# Altium footprint library Capacitors.PcbLib: 10 footprints
Each footprint in its own frame and in the unit in brackets; x right, y up, seen from the top. Pads: shape width x height; smd on the part's side, far side on the other; paste and mask are expansions set on the pad; w line width, h text height; cw(c..) or ccw(c..) is an arc to the next point about the centre after c.
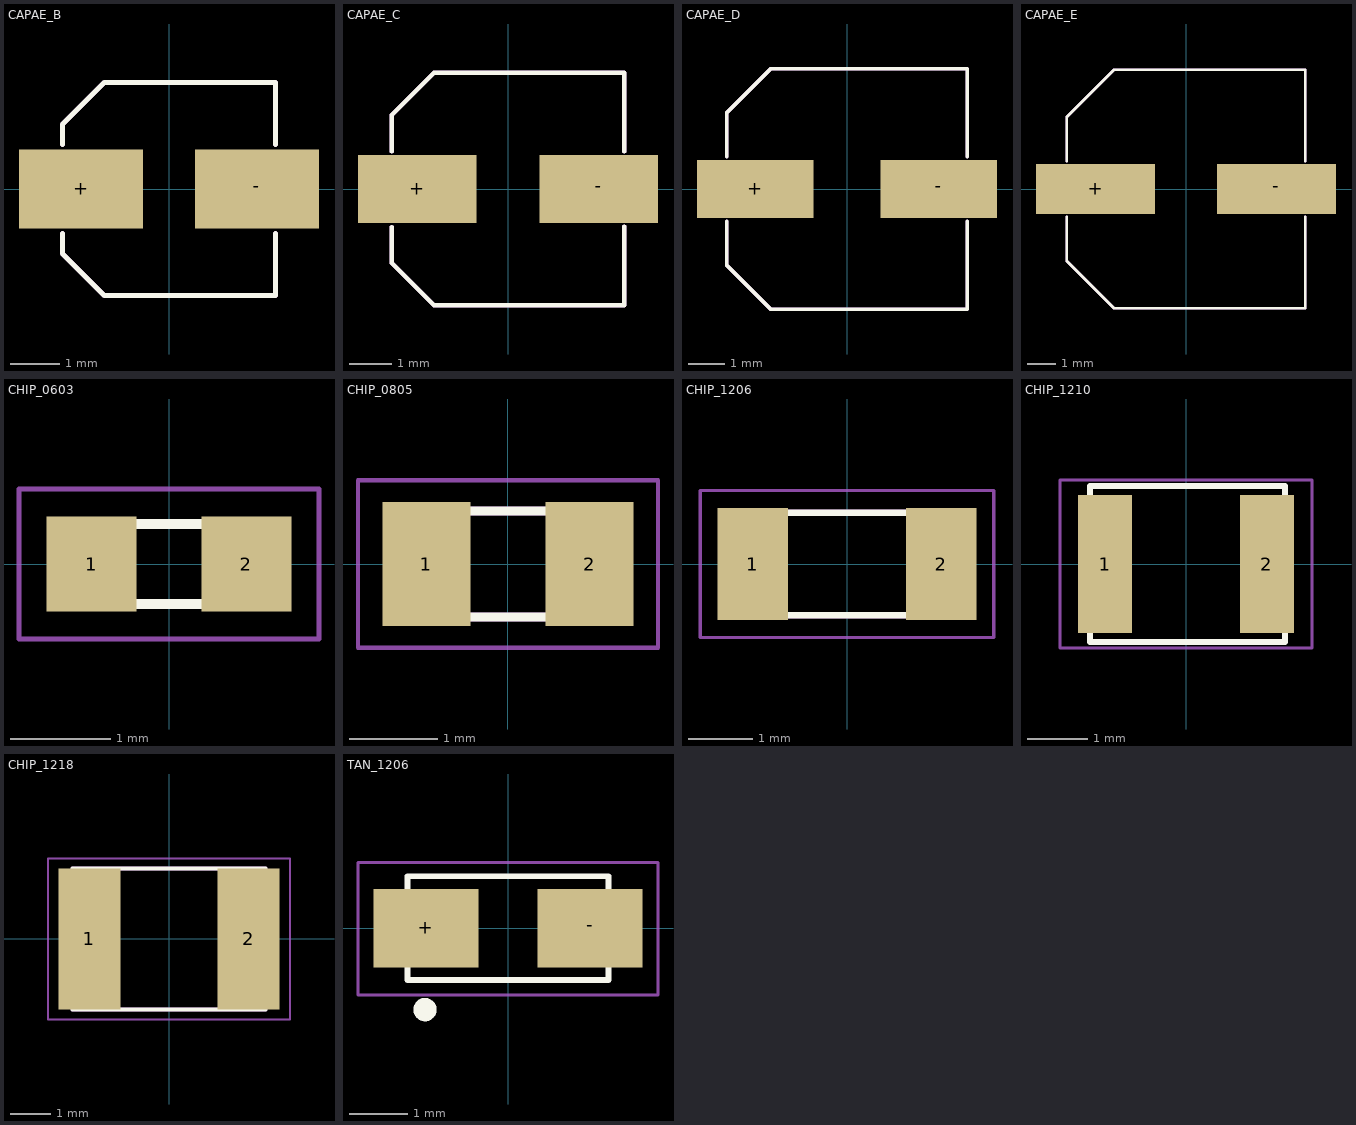
[diagram p0: the footprints below, top view; thin cyan lines are the x and y axes]

## CAPAE_B [mm] "Aluminum Electrolytic Capacitor, Body 4.30x4.30x5.40mm, IPC Low Density"
height 5.4
pads (2):
  rect 2.5x1.6 smd: +(-1.772,0) -(1.772,0)
Top Overlay:
  lines w0.1: -2.15,-0.9 -2.15,-1.3 -1.3,-2.15 2.15,-2.15 2.15,-0.9 ; -2.15,0.9 -2.15,1.3 -1.3,2.15 2.15,2.15 2.15,0.9
Mechanical 2:
  lines w0.1: -2.15,-0.9 -2.15,-1.3 -1.3,-2.15 2.15,-2.15 2.15,-0.9 ; -2.15,0.9 -2.15,1.3 -1.3,2.15 2.15,2.15 2.15,0.9
3D body "CAPAE_B.STEP": height 5.41, standoff -0.01, extent -2.3,-2.141 2.3,2.159

## CAPAE_C [mm] "Aluminum Electrolytic Capacitor, Body 5.30x5.30x5.40mm, IPC Low Density"
height 5.4
pads (2):
  rect 2.8x1.6 smd: +(-2.147,0) -(2.147,0)
Top Overlay:
  lines w0.1: -2.75,-0.9 -2.75,-1.75 -1.75,-2.75 2.75,-2.75 2.75,-0.889 ; -2.75,0.889 -2.75,1.75 -1.75,2.75 2.75,2.75 2.75,0.889
Mechanical 2:
  lines w0.1: -2.75,-0.9 -2.75,-1.75 -1.75,-2.75 2.75,-2.75 2.75,-0.889 ; -2.75,0.889 -2.75,1.75 -1.75,2.75 2.75,2.75 2.75,0.889
3D body "CAPAE_C.STEP": height 5.41, standoff -0.01, extent -2.95,-2.65 2.95,2.65

## CAPAE_D [mm] "Aluminum Electrolytic Capacitor, Body 6.60x6.60x5.40mm, IPC Low Density"
height 5.4
pads (2):
  rect 3.2x1.6 smd: +(-2.521,0) -(2.521,0)
Top Overlay:
  lines w0.1: -3.3,-0.889 -3.3,-2.1 -2.1,-3.3 3.3,-3.3 3.3,-0.889 ; -3.3,0.889 -3.3,2.1 -2.1,3.3 3.3,3.3 3.3,0.889
Mechanical 2:
  lines w0.1: -3.3,-0.889 -3.3,-2.1 -2.1,-3.3 3.3,-3.3 3.3,-0.889 ; -3.3,0.889 -3.3,2.1 -2.1,3.3 3.3,3.3 3.3,0.889
3D body "CAPAE_D.STEP": height 5.41, standoff -0.01, extent -3.525,-3.3 3.475,3.3

## CAPAE_E [mm] "Aluminum Electrolytic Capacitor, Body 8.30x8.30x6.50mm, IPC Low Density"
height 6.5
pads (2):
  rect 4.25x1.8 smd: +(-3.225,0) -(3.225,0)
Top Overlay:
  lines w0.1: -4.25,-1 -4.25,-2.575 -2.575,-4.25 4.25,-4.25 4.25,-1 ; -4.25,1 -4.25,2.575 -2.575,4.25 4.25,4.25 4.25,1
Mechanical 2:
  lines w0.1: -4.25,-1 -4.25,-2.575 -2.575,-4.25 4.25,-4.25 4.25,-1 ; -4.25,1 -4.25,2.575 -2.575,4.25 4.25,4.25 4.25,1
3D body "CAPAE_E.STEP": height 6.2, standoff -0.01, extent -4.525,-4.15 4.475,4.15

## CHIP_0603 [mm] "Chip Capacitor, 2-Leads, Body 1.60x0.80mm, IPC Medium Density"
height 0.8
pads (2):
  rect 0.9x0.95 smd: 1(-0.775,0) 2(0.775,0)
Top Overlay:
  lines w0.1: -0.8,-0.4 0.8,-0.4 0.8,0.4 -0.8,0.4 -0.8,-0.4
Mechanical 2:
  lines w0.05: -1.5,-0.75 -1.5,0.75 1.5,0.75 1.5,-0.75 -1.5,-0.75
  lines w0.1: -0.8,-0.4 -0.8,0.4 0.8,0.4 0.8,-0.4 -0.8,-0.4
3D body "CHIP_0603.step": height 0.65, standoff 0, extent -0.75,-0.4 0.75,0.4

## CHIP_0805 [mm] "Chip Capacitor, 2-Leads, Body 2.00x1.25mm, IPC Medium Density"
height 0.85
pads (2):
  rect 1x1.4 smd: 1(-0.925,0) 2(0.925,0)
Top Overlay:
  lines w0.1: -1,-0.6 -1,0.6 1,0.6 1,-0.6 -1,-0.6
Mechanical 2:
  lines w0.05: -1.7,-0.95 1.7,-0.95 1.7,0.95 -1.7,0.95 -1.7,-0.95
  lines w0.1: -1,-0.6 -1,0.6 1,0.6 1,-0.6 -1,-0.6
3D body "CHIP_0805.step": height 0.7, standoff 0, extent -1,-0.6 1,0.6

## CHIP_1206 [mm] "Chip Capacitor, 2-Leads, Body 3.20x1.60mm, IPC Medium Density"
height 0.85
pads (2):
  rect 1.1x1.75 smd: 1(-1.475,0) 2(1.475,0)
Top Overlay:
  lines w0.1: -1.6,-0.8 -1.6,0.8 1.6,0.8 1.6,-0.8 -1.6,-0.8
Mechanical 2:
  lines w0.05: -2.3,-1.15 -2.3,1.15 2.3,1.15 2.3,-1.15 -2.3,-1.15
  lines w0.1: -1.6,-0.8 1.6,-0.8 1.6,0.8 -1.6,0.8 -1.6,-0.8
3D body "CHIP_1206.step": height 1.05, standoff 0, extent -1.6,-0.8 1.6,0.8

## CHIP_1210 [mm] "Chip Capacitor, 2-Leads, Body 3.20x2.50mm, IPC Medium Density"
height 1.4
pads (2):
  rect 0.9x2.3 smd: 1(-1.35,0) 2(1.35,0)
Top Overlay:
  lines w0.1: -1.6,-1.3 1.65,-1.3 1.65,1.3 -1.6,1.3 -1.6,-1.3
Mechanical 2:
  lines w0.05: -2.1,-1.4 -2.1,1.4 2.1,1.4 2.1,-1.4 -2.1,-1.4
3D body "CHIP_1210.step": height 1, standoff 0, extent -1.675,-1.35 1.725,1.35

## CHIP_1218 [mm] "Chip Capacitor, 2-Leads, Body 4.50x3.20mm, IPC Medium Density"
height 1.8
pads (2):
  rect 1.55x3.5 smd: 1(-1.975,0) 2(1.975,0)
Top Overlay:
  lines w0.1: -2.4,-1.75 -2.4,1.75 2.4,1.75 2.4,-1.75 -2.4,-1.75
Mechanical 2:
  lines w0.05: -3,-2 -3,2 3,2 3,-2 -3,-2
  lines w0.1: -2.4,-1.75 2.4,-1.75 2.4,1.75 -2.4,1.75 -2.4,-1.75

## TAN_1206 [mm] "Chip Capacitor, 2-Leads, Body 3.20x1.60mm, IPC Medium Density"
height 1.8
pads (2):
  rect 1.8x1.35 smd: +(-1.41,0) -(1.41,0)
Top Overlay:
  circle w0.2: c-1.425,-1.4 r0.1
  lines w0.1: -1.725,-0.889 -1.725,0.889 1.725,0.889 1.725,-0.889 -1.725,-0.889
Mechanical 2:
  lines w0.05: -2.575,-1.15 2.575,-1.15 2.575,1.125 -2.575,1.125 -2.575,-1.15
3D body "TAN_1206.STEP": height 1.8, standoff 0, extent -1.7,-0.9 1.7,0.9